# Altium footprint library passive.PcbLib: 5 footprints
Each footprint in its own frame and in the unit in brackets; x right, y up, seen from the top. Pads: shape width x height; smd on the part's side, far side on the other; paste and mask are expansions set on the pad; w line width, h text height; cw(c..) or ccw(c..) is an arc to the next point about the centre after c.
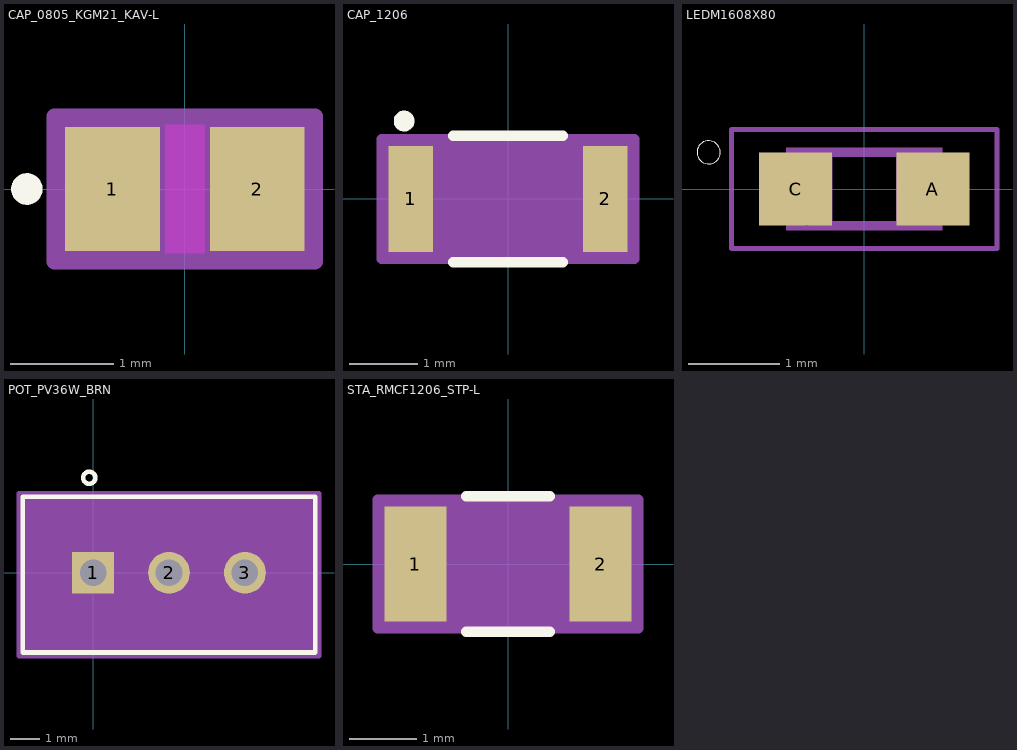
[diagram p0: the footprints below, top view; thin cyan lines are the x and y axes]

## CAP_0805_KGM21_KAV-L [mil]
pads (2):
  rect 36x47 smd paste+0 mask+0: 1(-27.5,0) 2(27.5,0)
Top Layer keep-out:
  region: -7.5,-22.5 -7.5,22.5 7.5,22.5 7.5,-22.5
Top Overlay:
  circle w6: c-60,0 r3
Keep-Out Layer:
  region: -7.5,-24.5 -7.5,24.5 7.5,24.5 7.5,-24.5
Mechanical 13:
  circle w0: c-22.5,0 r3
  lines w1: -39.5,-24.5 -39.5,24.5 ; -39.5,-24.5 -9.5,-24.5 -9.5,24.5 -39.5,24.5 ; -39.5,-24.5 39.5,-24.5 ; -39.5,-24.5 -39.5,24.5 ; -39.5,24.5 39.5,24.5 ; 39.5,-24.5 9.5,-24.5 9.5,24.5 39.5,24.5 ; 39.5,-24.5 39.5,24.5 ; 39.5,-24.5 39.5,24.5
Mechanical 15:
  region: 49.5,-27.5 -49.5,-27.5 -49.5,27.5 49.5,27.5
  lines w6: -49.5,-27.5 -49.5,27.5 49.5,27.5 49.5,-27.5 -49.5,-27.5
3D body "CAP_KGM21_KAV.step": height 39.02, standoff 0, extent -39.49,-24.49 39.49,24.49

## CAP_1206 [mil]
pads (2):
  rect 25.68x60.99 smd paste+0 mask+0: 1(-56.15,0) 2(56.15,0)
Top Overlay:
  circle w6: c-60,45 r3
  lines w6: -31.66,-36.5 31.66,-36.5 ; -31.66,36.5 31.66,36.5
Mechanical 13:
  circle w0: c-51.15,0 r3
  lines w1: -62.99,-31.5 -62.99,31.5 ; -62.99,-31.5 62.99,-31.5 ; -62.99,-31.5 -43.31,-31.5 -43.31,31.5 -62.99,31.5 ; -62.99,-31.5 -62.99,31.5 ; -62.99,31.5 62.99,31.5 ; 62.99,-31.5 62.99,31.5 ; 62.99,-31.5 62.99,31.5 ; 62.99,-31.5 43.31,-31.5 43.31,31.5 62.99,31.5
Mechanical 15:
  region: 72.99,-34.5 -72.99,-34.5 -72.99,34.5 72.99,34.5
  lines w6: -72.99,-34.5 72.99,-34.5 72.99,34.5 -72.99,34.5 -72.99,-34.5
3D body "CAP_CL31_SAM.step": height 39.37, standoff 0, extent -62.99,-31.5 62.99,31.5

## LEDM1608X80 [mm]
pads (2):
  rect 0.8x0.8 smd: A(0.75,0) C(-0.75,0)
Top Overlay:
  circle w0: c-1.7,0.4 r0.127
Mechanical 13:
  circle w0.051: c-0.625,-0.35 r0.075
  region: 0.65,0.175 0.55,0.175 0.55,0.275 0.65,0.275
  region: 0.651,-0.275 0.55,-0.275 0.55,-0.176 0.651,-0.176
  region: 0.575,-0.275 0.35,-0.275 0.35,0.275 0.575,0.275
  region: 0.85,0.25 0.35,0.25 0.35,0.45 0.85,0.45
  region: 0.85,-0.45 0.35,-0.45 0.35,-0.25 0.85,-0.25
  region: -0.351,-0.451 -0.576,-0.451 -0.576,0.451 -0.351,0.451
  region: -0.55,0.25 -0.85,0.25 -0.85,0.45 -0.55,0.45
  region: -0.35,-0.451 -0.726,-0.451 -0.726,-0.4 -0.35,-0.4
  region: -0.55,-0.275 -0.6,-0.275 -0.6,-0.225 -0.55,-0.225
  region: -0.7,-0.451 -0.851,-0.451 -0.851,-0.25 -0.7,-0.25
  lines w0.051: 0.825,-0.275 cw(c0.825,0) 0.825,0.275
  lines w0.102: -0.8,-0.3 ccw(c-0.826,0) -0.8,0.3 ; -0.375,-0.4 0.35,-0.4 ; -0.35,0.4 0.35,0.4
Mechanical 15:
  lines w0.05: -1.45,-0.65 -1.45,0.65 1.45,0.65 1.45,-0.65 -1.45,-0.65
3D body "step_temp.STEP": height 0.8, standoff 0, extent -0.8,-0.4 0.8,0.4

## POT_PV36W_BRN [mil]
pads (3):
  rect 55x55 / inner round 60 / far side rect 55x55 hole 35 paste-27.5 mask+0: 1(0,0)
  round 55 / inner round 60 / far side round 55 hole 35 paste-27.5 mask+0: 2(100,0) 3(200,0)
Top Overlay:
  circle w6: c-5,125 r8
  lines w6: -92.5,-105.12 -92.5,99.88 292.5,99.88 292.5,-105.12 -92.5,-105.12
Mechanical 13:
  circle w0: c-77.5,-90.12 r8
  lines w1: -87.5,-100.12 -87.5,94.88 287.5,94.88 287.5,-100.12 -87.5,-100.12
Mechanical 15:
  region: 297.5,104.88 -97.5,104.88 -97.5,-110.12 297.5,-110.12
  lines w6: -97.5,-110.12 297.5,-110.12 297.5,104.88 -97.5,104.88 -97.5,-110.12
3D body "POT_PV36W_BRN.step": height 455, standoff -200, extent -87.48,-100.12 287.48,94.88

## STA_RMCF1206_STP-L [mil]
pads (2):
  rect 36x67 smd paste+0 mask+0: 1(-54,0) 2(54,0)
Top Overlay:
  lines w6: -24.35,-39.5 24.35,-39.5 ; -24.35,39.5 24.35,39.5
Mechanical 13:
  lines w1: -68,-34.5 -68,34.5 ; -68,-34.5 -36,-34.5 -36,34.5 -68,34.5 ; -68,-34.5 68,-34.5 ; -68,-34.5 -68,34.5 ; -68,34.5 68,34.5 ; 68,-34.5 36,-34.5 36,34.5 68,34.5 ; 68,-34.5 68,34.5 ; 68,-34.5 68,34.5
Mechanical 15:
  region: 76,-37.5 -76,-37.5 -76,37.5 76,37.5
  lines w6: -76,-37.5 76,-37.5 76,37.5 -76,37.5 -76,-37.5
3D body "STA_RMCF1206_STP.step": height 27.99, standoff 0, extent -67.99,-34.49 67.99,34.49